# Altium integrated library 4 Pin 2X2Pos THT BergeStick 2.54MM Amphenol 67997-104HLF.IntLib: 1 symbol
Pins are listed as number, name and electrical type; pins without a type are passive.

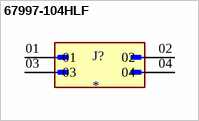
[diagram p0: symbol 67997-104HLF]

## 67997-104HLF
designator J?
BergStikÂ®, Board to Board connector, Unshrouded vertical header, Through Hole, Double Row, 4 Positions, 2.54 mm (0.100in) Pitch; MF: Amphenol ICC; MP: 67997-104HLF; Value: *; Package: None; Purchase-URL: https://pricing.snapeda.com/search/part/67997-104HLF/?ref=eda; Digi-Key_Part_Number: 609-3225-ND; Check_prices: https://www.snapeda.com/parts/67997-104HLF/Amphenol+FCI/view-part/?ref=eda; SnapEDA_Link: https://www.snapeda.com/parts/67997-104HLF/Amphenol+FCI/view-part/?ref=snap
footprint AMPHENOL_67997-104HLF
pins: 01, 02, 03, 04